# Altium integrated library TPA3116D2DADR.IntLib: 1 symbol
Pins are listed as number, name and electrical type; pins without a type are passive.

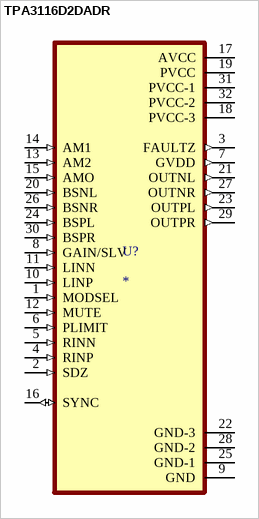
[diagram p0: symbol TPA3116D2DADR]

## TPA3116D2DADR
designator U?
50-W stereo, 100-W mono, 4.5- to 26-V supply, analog input Class-D audio amplifier w/ SpeakerGuardâ„¢; MF: Texas Instruments; MP: TPA3116D2DADR; SnapEDA_Link: https://www.snapeda.com/parts/TPA3116D2DADR/Texas+Instruments/view-part/?ref=snap; Package: HTSSOP-32 Texas Instruments; Value: *; Check_prices: https://www.snapeda.com/parts/TPA3116D2DADR/Texas+Instruments/view-part/?ref=eda
footprint SOP65P810X115-33N
pins: 1 MODSEL (in), 2 SDZ (in), 3 FAULTZ (out), 4 RINP (in), 5 RINN (in), 6 PLIMIT (in), 7 GVDD (out), 8 GAIN/SLV (in), 9 GND (power), 10 LINP (in), 11 LINN (in), 12 MUTE (in), 13 AM2 (in), 14 AM1 (in), 15 AMO (in), 16 SYNC (io), 17 AVCC (power), 18 PVCC-3 (power), 19 PVCC (power), 20 BSNL (in), 21 OUTNL (out), 22 GND-3 (power), 23 OUTPL (out), 24 BSPL (in), 25 GND-1 (power), 26 BSNR (in), 27 OUTNR (out), 28 GND-2 (power), 29 OUTPR (out), 30 BSPR (in), 31 PVCC-1 (power), 32 PVCC-2 (power)